# EAGLE library part TL494 (library __MyCommonLib1)
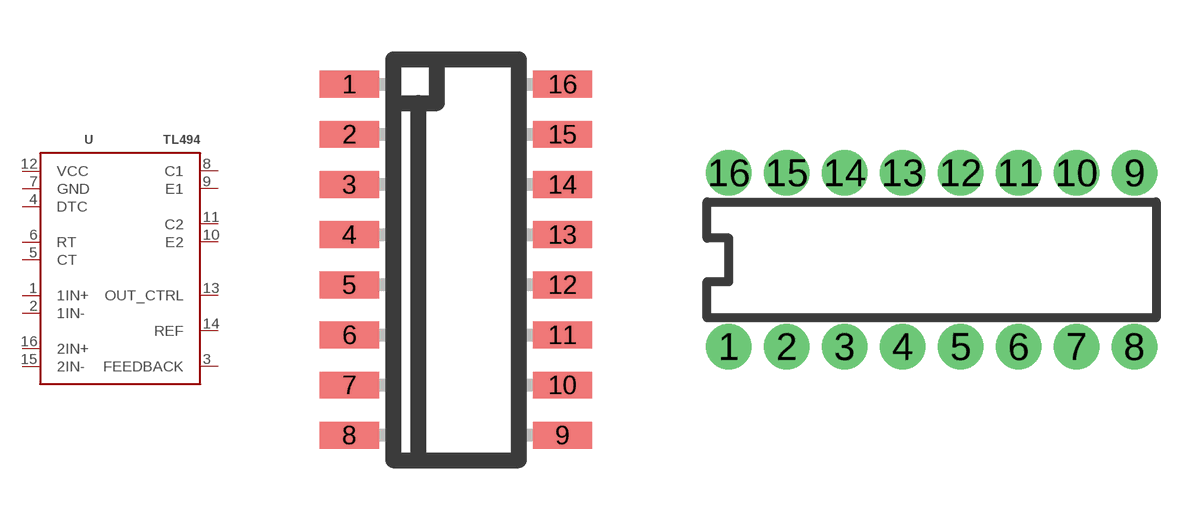
[diagram p17: symbol with the pads of SOIC16; footprints SOIC16, DIP-16]

Designator prefix -

## TL494(SOIC-16)  [SOIC16]
1  1IN+
2  1IN-
3  FEEDBACK
4  DTC
5  CT
6  RT
7  GND
8  C1
9  E1
10  E2
11  C2
12  VCC
13  OUT_CTRL
14  REF
15  2IN-
16  2IN+

## TL494(DIP-16)  [DIP-16]
Pads as for SOIC16

## Footprint SOIC16 (pad centres in mm)
smd 1.5 x 0.68: 1 -2.699,4.445; 2 -2.699,3.175; 3 -2.699,1.905; 4 -2.699,0.635; 5 -2.699,-0.635; 6 -2.699,-1.905; 7 -2.699,-3.175; 8 -2.699,-4.445; 9 2.699,-4.445; 10 2.699,-3.175; 11 2.699,-1.905; 12 2.699,-0.635; 13 2.699,0.635; 14 2.699,1.905; 15 2.699,3.175; 16 2.699,4.445

## Footprint DIP-16 (pad centres in mm)
drill 0.9 pad 2: 1 -8.89,-3.81; 2 -6.35,-3.81; 3 -3.81,-3.81; 4 -1.27,-3.81; 5 1.27,-3.81; 6 3.81,-3.81; 7 6.35,-3.81; 8 8.89,-3.81; 9 8.89,3.81; 10 6.35,3.81; 11 3.81,3.81; 12 1.27,3.81; 13 -1.27,3.81; 14 -3.81,3.81; 15 -6.35,3.81; 16 -8.89,3.81